# Altium schematic symbol library RS-7.SchLib: 1 symbol
Pins are listed as number, name and electrical type; pins without a type are passive.

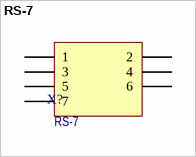
[diagram p0: symbol RS-7]

## RS-7
designator X?  (value not drawn)
RS-7, 7-pin, instrument plug of threaded connection.; Назначение: Connector for output of contacts to the front panel; Потребление, Вт: 0.0; Наименование: РС7
footprint RS-7
pins: 1, 2, 3, 4, 5, 6, 7